# Altium schematic symbol library SCH - DAC - MI MAX5190.SCHLIB: 1 symbol
Pins are listed as number, name and electrical type; pins without a type are passive.

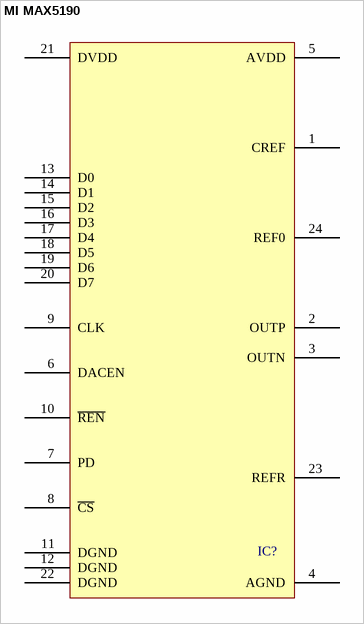
[diagram p0: symbol MI MAX5190]

## MI MAX5190
designator IC?
pins: 1 CREF, 2 OUTP, 3 OUTN, 4 AGND, 5 AVDD, 6 DACEN, 7 PD, 8 ~{CS}, 9 CLK, 10 ~{REN}, 11 DGND, 12 DGND, 13 D0, 14 D1, 15 D2, 16 D3, 17 D4, 18 D5, 19 D6, 20 D7, 21 DVDD, 22 DGND, 23 REFR, 24 REF0